# EAGLE library part R-RJ45R08P-C000 (library R-RJ45R08P-C000)
Ethernet Connectors/Modular Connectors (RJ45 RJ11) Through Hole RoHS Source: Datasheet <https://datasheet.lcsc.com/szlcsc/1905231215_Shenzhen-Cankemeng-R-RJ45R08P-C000_C386757.pdf>
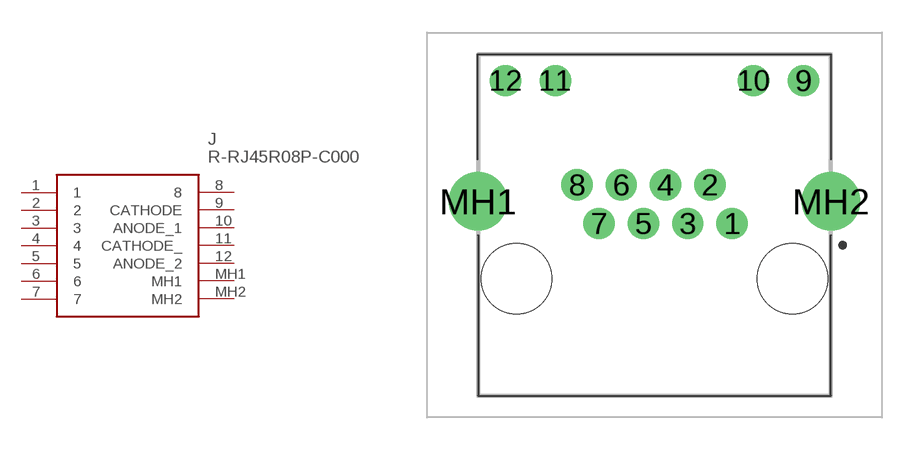
[diagram p0: symbol with the pads of RRJ45R08PC000; footprint RRJ45R08PC000]

Designator prefix J

## R-RJ45R08P-C000 (Description: Ethernet Connectors/Modular Connectors (RJ45 RJ11) Through Hole RoHS; Height: 13.4mm; Manufacturer_Name: Shenzhen Cankemeng; Manufacturer_Part_Number: R-RJ45R08P-C000)  [RRJ45R08PC000]
1  1
2  2
3  3
4  4
5  5
6  6
7  7
8  8
9  CATHODE
10  ANODE_1
11  CATHODE_
12  ANODE_2
MH1  MH1
MH2  MH2

## Footprint RRJ45R08PC000 (pad centres in mm)
R-RJ45R08P-C000-3
drill 0.89 pad 1.446: 1 0,0; 2 -1.02,1.78; 3 -2.04,0; 4 -3.06,1.78; 5 -4.08,0; 6 -5.1,1.78; 7 -6.12,0; 8 -7.14,1.78; 9 3.29,6.59; 10 1,6.59; 11 -8.14,6.59; 12 -10.43,6.59
drill 1.8 pad 2.7: MH1 -11.7,1.02; MH2 4.56,1.02
hole 3.25 at -9.92,-2.54
hole 3.25 at 2.78,-2.54